# Altium footprint library C7343.PcbLib: 1 footprints
Each footprint in its own frame and in the unit in brackets; x right, y up, seen from the top. Pads: shape width x height; smd on the part's side, far side on the other; paste and mask are expansions set on the pad; w line width, h text height; cw(c..) or ccw(c..) is an arc to the next point about the centre after c.
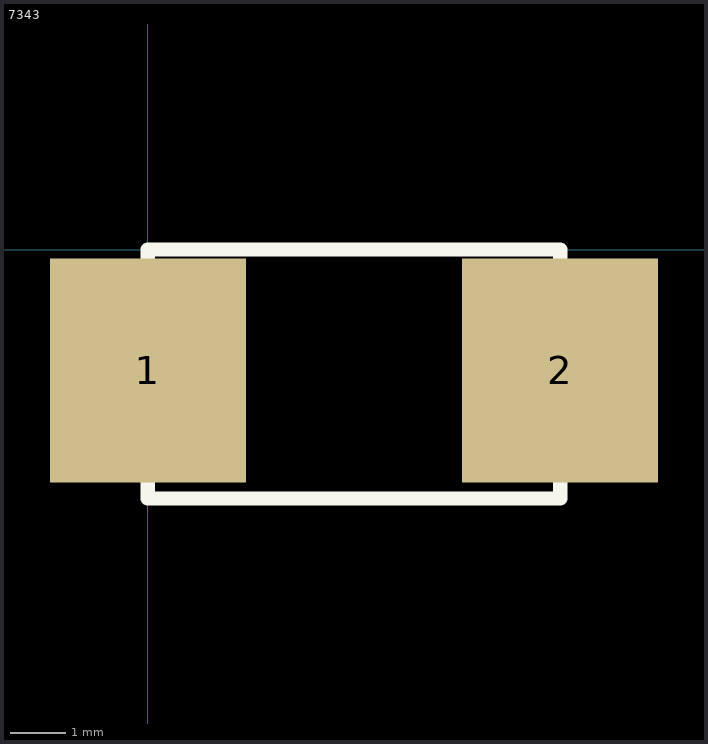
[diagram p0: the footprint, top view; thin cyan lines are the x and y axes]

## 7343 [mm]
pads (2):
  rect 3.5x4 smd: 1(0,-2.159) 2(7.366,-2.159)
Top Overlay:
  lines w0.254: 0,-4.445 0,0 7.366,0 7.366,-4.445 0,-4.445